# Altium footprint library SparkFun-Sensors.PCBLIB: 114 footprints (part 7 of 8)
Each footprint in its own frame and in the unit in brackets; x right, y up, seen from the top. Pads: shape width x height; smd on the part's side, far side on the other; paste and mask are expansions set on the pad; w line width, h text height; cw(c..) or ccw(c..) is an arc to the next point about the centre after c.
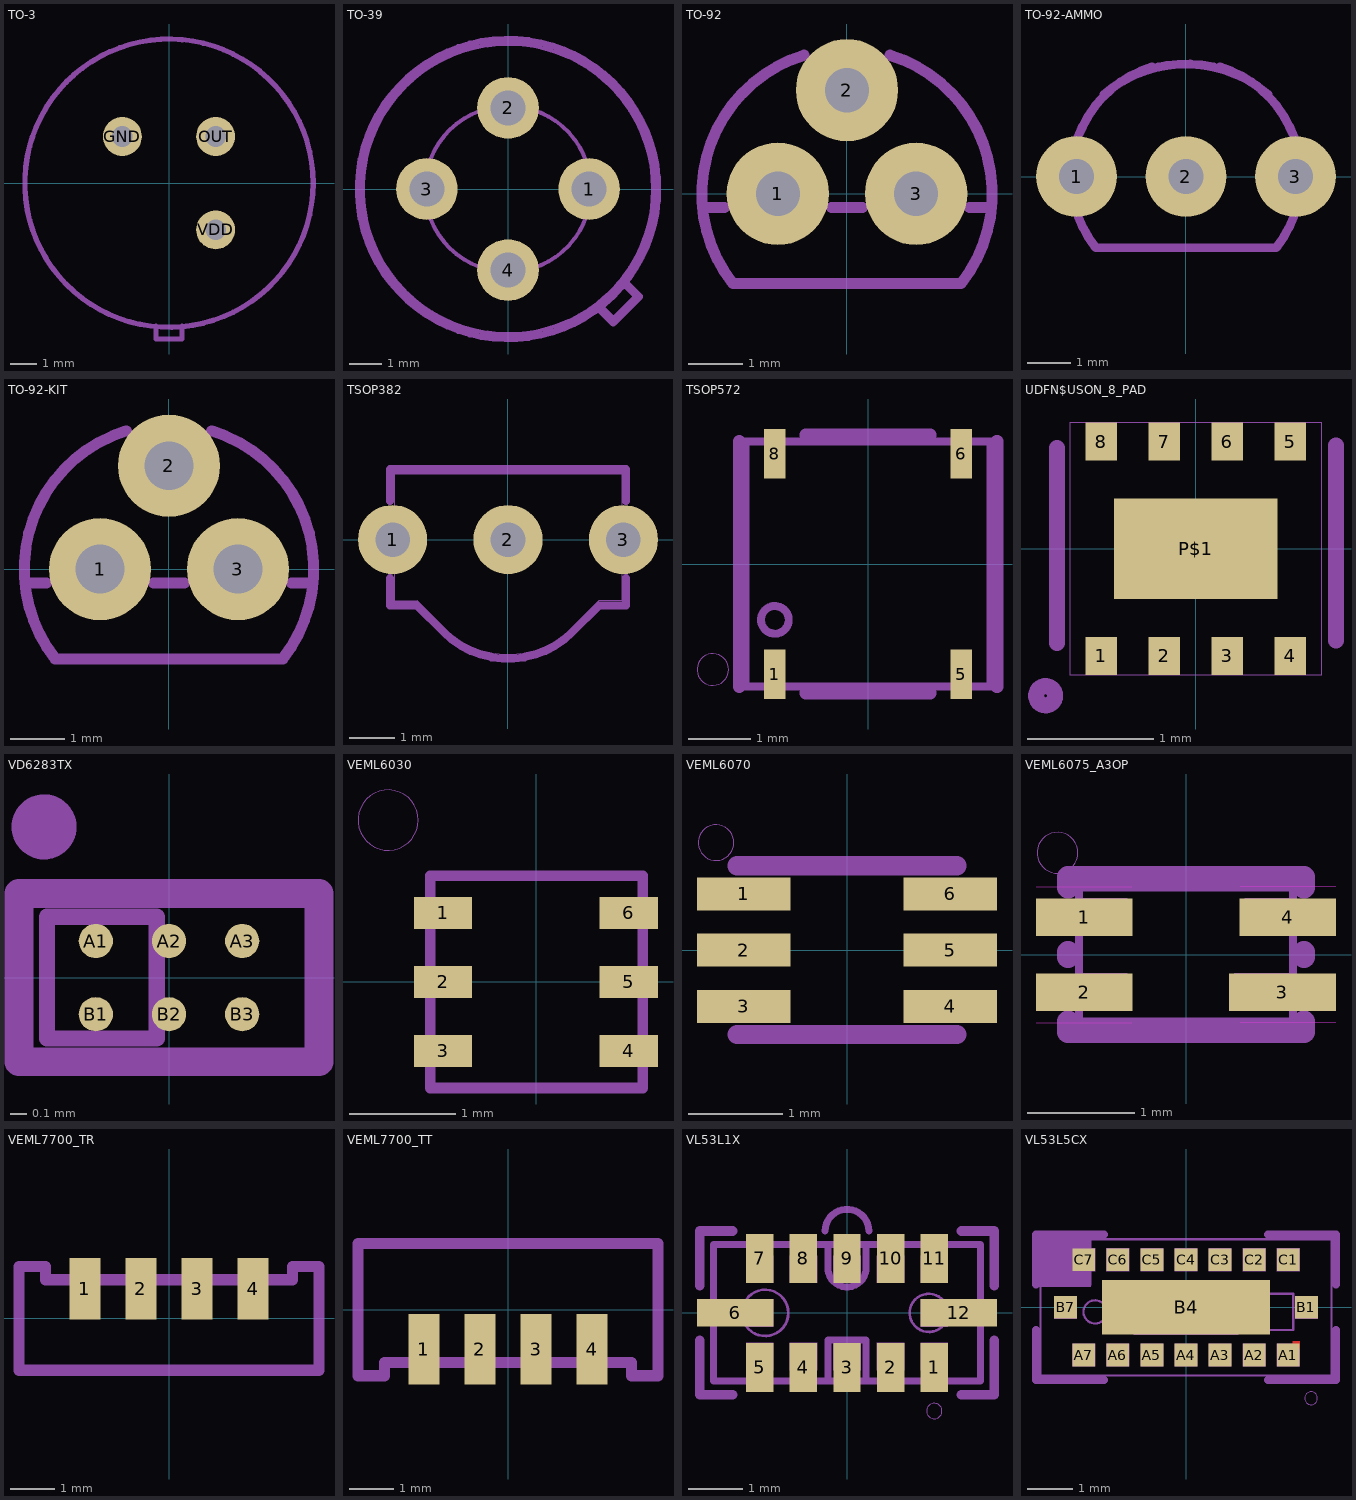
[diagram p6: the footprints below, top view; thin cyan lines are the x and y axes]

## TO-3 [mil]
pads (3):
  round 59.06 hole 31.5: GND(-70.71,70.71) OUT(70.71,70.71) VDD(70.71,-70.71)
Bottom Solder:
  circle w33.46: c-70.71,70.71 r16.73
  circle w33.46: c70.71,-70.71 r16.73
  circle w33.46: c70.71,70.71 r16.73
tPlace:
  circle w8: c0,0 r218.5
  lines w8: -19.69,-216.54 -19.69,-236.22 19.69,-236.22 19.69,-216.54

## TO-39 [mil]
pads (4):
  round 76 hole 43.31: 1(100,0) 2(0,100) 3(-100,0) 4(0,-100)
Bottom Solder:
  circle w0: c-100,0 r40
  circle w0: c100,0 r40
  circle w0: c0,-100 r40
  circle w0: c0,100 r40
tDocu:
  circle w5: c0,0 r102.36
  circle w5: c0,0 r179.13
  lines w5: 112.16,-141.15 128.87,-157.86 ; 130.26,-159.25 156.7,-132.8 ; 138.61,-114.71 155.31,-131.41
tPlace:
  circle w8: c0,0 r185
  lines w8: 112.16,-148.15 129.87,-165.86 ; 130.26,-165.25 162.7,-132.8 ; 145.61,-115.71 162.31,-132.41

## TO-92 [mil]
pads (3):
  round 74 hole 32: 1(-50,0) 2(0,75) 3(50,0)
tPlace:
  lines w8: -104.52,-10 -88.73,-10 ; -30.96,100.33 ccw(c0,0) -82.46,-65 82.46,-65 ccw(c0,0) 30.96,100.33 ; -11.27,-10 11.27,-10 ; 88.73,-10 104.52,-10

## TO-92-AMMO [mil]
pads (3):
  round 74 hole 32: 1(-100,0) 2(0,0) 3(100,0)
tPlace:
  lines w8: -75,75 cw(c0,-12.5) 25,100 ; -30.96,100.33 ccw(c0,0) -82.46,-65 82.46,-65 ccw(c0,0) 30.96,100.33 ; -25,100 cw(c0,-12.5) 25,100 ; 75,75 ccw(c0,-12.5) 25,100

## TO-92-KIT [mil]
pads (3):
  round 74 hole 35.43: 1(-50,0) 2(0,75) 3(50,0)
Top Solder:
  region: -50,-17.5 -53.4,-17.58 -59.75,-15.12 -64.67,-10.43 -67.42,-4.2 -67.5,-0.8 -67.59,2.77 -65.02,9.44 -60.1,14.61 -53.57,17.51 -50,17.6 -46.48,17.54 -40.02,14.74 -35.12,9.67 -32.54,3.12 -32.6,-0.4 -32.63,-3.83 -35.31,-10.15 -40.21,-14.96 -46.57,-17.53 -50,-17.5
  region: 50,-17.5 46.6,-17.58 40.25,-15.12 35.33,-10.43 32.58,-4.2 32.5,-0.8 32.41,2.77 34.98,9.44 39.9,14.61 46.43,17.51 50,17.6 53.52,17.54 59.98,14.74 64.88,9.67 67.46,3.12 67.4,-0.4 67.37,-3.83 64.69,-10.15 59.79,-14.96 53.43,-17.53 50,-17.5
  region: 0,57.5 -3.4,57.42 -9.75,59.88 -14.67,64.57 -17.42,70.8 -17.5,74.2 -17.59,77.77 -15.02,84.44 -10.1,89.61 -3.57,92.51 0,92.6 3.52,92.54 9.98,89.74 14.88,84.67 17.46,78.12 17.4,74.6 17.37,71.17 14.69,64.85 9.79,60.04 3.43,57.47 0,57.5
Bottom Solder:
  region: -49.9,-37.5 -53.55,-37.55 -60.74,-36.22 -67.53,-33.51 -73.66,-29.54 -78.9,-24.44 -83.04,-18.42 -85.93,-11.7 -87.45,-4.55 -87.5,-0.9 -87.54,2.84 -86.17,10.19 -83.4,17.13 -79.32,23.39 -74.09,28.74 -67.93,32.97 -61.05,35.91 -53.74,37.46 -50,37.5 -46.26,37.45 -38.95,35.88 -32.09,32.92 -25.93,28.68 -20.72,23.31 -16.66,17.04 -13.9,10.09 -12.55,2.74 -12.6,-1 -12.64,-4.63 -14.13,-11.75 -16.99,-18.43 -21.09,-24.44 -26.29,-29.52 -32.37,-33.49 -39.12,-36.2 -46.27,-37.54 -49.9,-37.5
  region: 50.1,-37.5 46.45,-37.55 39.26,-36.22 32.47,-33.51 26.34,-29.54 21.1,-24.44 16.96,-18.42 14.07,-11.7 12.55,-4.55 12.5,-0.9 12.46,2.84 13.83,10.19 16.6,17.13 20.68,23.39 25.91,28.74 32.07,32.97 38.95,35.91 46.26,37.46 50,37.5 53.74,37.45 61.05,35.88 67.91,32.92 74.07,28.68 79.28,23.31 83.34,17.04 86.1,10.09 87.45,2.74 87.4,-1 87.36,-4.63 85.87,-11.75 83.01,-18.43 78.91,-24.44 73.71,-29.52 67.63,-33.49 60.88,-36.2 53.73,-37.54 50.1,-37.5
  region: 0.1,37.5 -3.55,37.45 -10.74,38.78 -17.53,41.49 -23.66,45.46 -28.9,50.56 -33.04,56.58 -35.93,63.3 -37.45,70.45 -37.5,74.1 -37.54,77.84 -36.17,85.19 -33.4,92.13 -29.32,98.39 -24.09,103.74 -17.93,107.97 -11.05,110.91 -3.74,112.46 0,112.5 3.74,112.45 11.05,110.88 17.91,107.92 24.07,103.68 29.28,98.31 33.34,92.04 36.1,85.09 37.45,77.74 37.4,74 37.36,70.37 35.87,63.25 33.01,56.57 28.91,50.56 23.71,45.48 17.63,41.51 10.88,38.8 3.73,37.46 0.1,37.5
tPlace:
  lines w8: -104.52,-10 -88.73,-10 ; -30.96,100.33 ccw(c0,0) -82.46,-65 82.46,-65 ccw(c0,0) 30.96,100.33 ; -11.27,-10 11.27,-10 ; 88.73,-10 104.52,-10

## TSOP382 [mil]
pads (3):
  round 60 hole 30: 1(-100,0) 2(0,0) 3(100,0)
tDocu:
  lines w0.1: -98.43,-53.15 -98.43,57.09 98.43,57.09 98.43,-53.15 78.74,-53.15 55.68,-76.21 cw(c0,-20.53) -55.68,-76.21 -78.74,-53.15 -98.43,-53.15
tPlace:
  lines w7: -102.36,-33.46 -102.36,-57.09 -78.74,-57.09 -55.68,-80.15 ccw(c0,-24.47) 55.68,-80.15 78.74,-57.09 102.36,-57.09 102.36,-33.46 ; -102.36,33.46 -102.36,61.02 102.36,61.02 102.36,33.46

## TSOP572 [mm]
pads (4):
  rect 0.35x0.8 smd: 1(-1.5,-1.775) 5(1.5,-1.775) 6(1.5,1.775) 8(-1.5,1.775)
tDocu:
  circle w0.127: c-1.5,-0.9 r0.224
  lines w0.127: -1.975,-1.975 -1.975,1.975 1.975,1.975 1.975,-1.975 -1.975,-1.975
tPlace:
  circle w0: c-2.5,-1.7 r0.254
  lines w0.203: -2.077,-1.975 -2.077,1.975 ; -1,-2.077 1,-2.077 ; -1,2.077 1,2.077 ; 2.077,-1.975 2.077,1.975

## UDFN$USON_8_PAD [mil]
pads (9):
  rect 9.84x11.81 smd: 1(-29.53,-33.53) 2(-9.84,-33.53) 3(9.84,-33.53) 4(29.53,-33.53) 5(29.53,33.53) 6(9.84,33.53) 7(-9.84,33.53) 8(-29.53,33.53)
  rect 51.18x31.5 smd paste+0: P$1(0,0)
Top Paste:
  region: -22,2 -22,13 -10,13 -10,2
  region: 9.69,2.16 9.69,13.16 21.69,13.16 21.69,2.16
  region: 9.69,-12.84 9.69,-1.84 21.69,-1.84 21.69,-12.84
  region: -22.32,-12.84 -22.32,-1.84 -10.32,-1.84 -10.32,-12.84
  region: -6.32,-5.84 -6.32,5.16 5.68,5.16 5.68,-5.84
tDocu:
  lines w0: -39.37,-39.37 39.37,-39.37 39.37,39.37 -39.37,39.37 -39.37,-39.37
tPlace:
  circle w5: c-47,-46 r3
  lines w5: -43.43,-29.51 -43.43,31.51 ; 43.86,-28.67 43.86,32.35

## VD6283TX [mm]
pads (6):
  rrect100% 0.21x0.21 smd paste+0: A1(-0.45,0.225) A2(0,0.225) A3(0.45,0.225) B1(-0.45,-0.225) B2(0,-0.225) B3(0.45,-0.225)
Top Paste:
  drawing of 6 lines, arcs and shapes, not listed
tDocu:
  lines w0.1: -0.9,-0.525 -0.9,0.525 0.9,0.525 0.9,-0.525 -0.9,-0.525 ; -0.75,-0.375 -0.75,0.375 -0.075,0.375 -0.075,-0.375 -0.75,-0.375
tPlace:
  circle w0.254: c-0.768,0.927 r0.073
  lines w0.178: -0.923,-0.517 -0.923,0.517 0.923,0.517 0.923,-0.517 -0.923,-0.517

## VEML6030 [mm]
pads (6):
  rect 0.55x0.3 smd: 1(-0.88,0.65) 2(-0.88,0) 3(-0.88,-0.65) 4(0.87,-0.65) 5(0.87,0) 6(0.87,0.65)
tDocu:
  lines w0.1: -1,-1 1,-1 1,1 -1,1 -1,-1
tPlace:
  circle w0: c-1.397,1.524 r0.284

## VEML6070 [mm]
pads (6):
  rect 1x0.35 smd: 1(-1.1,0.6) 2(-1.1,0) 3(-1.1,-0.6) 4(1.1,-0.6) 5(1.1,0) 6(1.1,0.6)
tPlace:
  circle w0: c-1.397,1.147 r0.191
  lines w0.203: -1.175,-0.9 1.175,-0.9 ; -1.175,0.9 1.175,0.9

## VEML6075_A3OP [mm]
pads (4):
  rect 0.9x0.35 smd: 1(-0.95,0.35) 2(-0.95,-0.35) 4(0.95,0.35)
  rect 1x0.35 smd: 3(0.9,-0.35)
Top keep-out:
  lines w0.003: -1.397,-0.635 -0.508,-0.635 ; -1.397,0.635 -0.508,0.635 ; 0.508,-0.635 1.397,-0.635 ; 0.508,0.635 1.397,0.635
tDocu:
  region: -0.97,0.175 -0.97,0.525 -0.55,0.525 -0.55,0.175
  region: 0.97,0.525 0.97,0.175 0.55,0.175 0.55,0.525
  region: -0.97,-0.525 -0.97,-0.175 -0.55,-0.175 -0.55,-0.525
  region: 0.45,-0.525 0.45,-0.175 0.97,-0.175 0.97,-0.525
  lines w0.076: -1,-0.625 -1,0.625 1,0.625 1,-0.625 -1,-0.625
tPlace:
  circle w0: c-1.2,0.95 r0.191
  lines w0.203: -1.1,-0.625 -1.1,-0.725 1.1,-0.725 1.1,-0.625 ; -1.1,-0.025 -1.1,0.025 ; -1.1,0.625 -1.1,0.725 1.1,0.725 1.1,0.625 ; 1.1,-0.025 1.1,0.025

## VEML7700_TR [mm]
pads (4):
  rect 0.7x1.4 smd: 1(-1.905,0.675) 2(-0.635,0.675) 3(0.635,0.675) 4(1.905,0.675)
tDocu:
  region: 2.155,1.175 2.155,0.175 1.655,0.175 1.655,1.175
  region: 0.885,1.175 0.885,0.175 0.385,0.175 0.385,1.175
  region: -0.385,1.175 -0.385,0.175 -0.885,0.175 -0.885,1.175
  region: -1.655,1.175 -1.655,0.175 -2.155,0.175 -2.155,1.175
  lines w0.254: -3.4,-1.175 -3.4,1.175 -2.8,1.175 -2.8,0.875 2.8,0.875 2.8,1.175 3.4,1.175 3.4,-1.175 -3.4,-1.175
  text "Sensitive This Side" at 0,-1.7 h0.47
tPlace:
  lines w0.254: -3,1.175 -3.4,1.175 -3.4,-1.175 3.4,-1.175 3.4,1.175 3,1.175

## VEML7700_TT [mm]
pads (4):
  rect 0.7x1.6 smd: 1(-1.905,-0.9) 2(-0.635,-0.9) 3(0.635,-0.9) 4(1.905,-0.9)
tDocu:
  region: -2.155,-1.5 -2.155,-0.3 -1.655,-0.3 -1.655,-1.5
  region: -0.885,-1.5 -0.885,-0.3 -0.385,-0.3 -0.385,-1.5
  region: 0.385,-1.5 0.385,-0.3 0.885,-0.3 0.885,-1.5
  region: 1.655,-1.5 1.655,-0.3 2.155,-0.3 2.155,-1.5
  lines w0.254: -3.4,-1.5 -3.4,1.5 3.4,1.5 3.4,-1.5 2.8,-1.5 2.8,-1.2 -2.8,-1.2 -2.8,-1.5 -3.4,-1.5
tPlace:
  lines w0.254: -3,-1.5 -3.4,-1.5 -3.4,1.5 3.4,1.5 3.4,-1.5 3,-1.5

## VL53L1X [mm]
pads (12):
  rect 0.5x0.9 smd paste+0: 1(1.6,-1) 2(0.8,-1) 3(0,-1) 4(-0.8,-1) 5(-1.6,-1) 7(-1.6,1) 8(-0.8,1) 9(0,1) 10(0.8,1) 11(1.6,1)
  rect 1.4x0.5 smd paste+0: 6(-2.05,0) 12(2.05,0)
Top Paste:
  region: -1.85,-1.15 -1.85,-0.55 -1.35,-0.55 -1.35,-1.15
  region: -1.05,-1.15 -1.05,-0.55 -0.55,-0.55 -0.55,-1.15
  region: -0.25,-1.15 -0.25,-0.55 0.25,-0.55 0.25,-1.15
  region: 0.55,-1.15 0.55,-0.55 1.05,-0.55 1.05,-1.15
  region: 1.35,-1.15 1.35,-0.55 1.85,-0.55 1.85,-1.15
  region: 1.95,-0.25 1.35,-0.25 1.35,0.25 1.95,0.25
  region: 1.85,1.15 1.85,0.55 1.35,0.55 1.35,1.15
  region: 1.05,1.15 1.05,0.55 0.55,0.55 0.55,1.15
  region: 0.25,1.15 0.25,0.55 -0.25,0.55 -0.25,1.15
  region: -0.55,1.15 -0.55,0.55 -1.05,0.55 -1.05,1.15
  region: -1.35,1.15 -1.35,0.55 -1.85,0.55 -1.85,1.15
  region: -1.95,0.25 -1.35,0.25 -1.35,-0.25 -1.95,-0.25
tDocu:
  lines w0.127: -0.35,-1.25 0.35,-1.25 ; -0.35,-1.25 -2.45,-1.25 -2.45,1.25 -0.35,1.25 ; -0.35,-1.25 -0.35,-0.5 0.35,-0.5 0.35,-1.25 ; -0.35,1.25 0.35,1.25 ; -0.35,1.25 -0.35,0.85 ccw(c0,0.825) 0.35,0.85 0.35,1.25 ; 0.35,-1.25 2.45,-1.25 2.45,1.25 0.35,1.25
tPlace:
  circle w0: c1.6,-1.8 r0.141
  lines w0.127: -0.4,1.5 cw(c0,1.5) 0.4,1.5
  lines w0.178: -2.7,-0.5 -2.7,-1.5 -2.1,-1.5 ; -2.7,0.5 -2.7,1.5 -2.1,1.5 ; 2.1,-1.5 2.7,-1.5 2.7,-0.5 ; 2.1,1.5 2.7,1.5 2.7,0.5
Document:
  region: 1.35,-0.25 1.35,0.25 1.85,0.25 1.85,-0.25
  region: -0.25,-1.05 -0.25,-0.55 0.25,-0.55 0.25,-1.05
  region: 0.55,-1.05 0.55,-0.55 1.05,-0.55 1.05,-1.05
  region: 1.35,-1.05 1.35,-0.55 1.85,-0.55 1.85,-1.05
  region: -1.05,-1.05 -1.05,-0.55 -0.55,-0.55 -0.55,-1.05
  region: -1.85,-1.05 -1.85,-0.55 -1.35,-0.55 -1.35,-1.05
  region: -1.85,-0.25 -1.85,0.25 -1.35,0.25 -1.35,-0.25
  region: -1.85,0.55 -1.85,1.05 -1.35,1.05 -1.35,0.55
  region: -1.05,0.55 -1.05,1.05 -0.55,1.05 -0.55,0.55
  region: -0.25,0.55 -0.25,1.05 0.25,1.05 0.25,0.55
  region: 0.55,0.55 0.55,1.05 1.05,1.05 1.05,0.55
  region: 1.35,0.55 1.35,1.05 1.85,1.05 1.85,0.55
Reference:
  circle w0.05: c-1.5,0 r0.425
  circle w0.05: c1.5,0 r0.35

## VL53L5CX [mm]
pads (17):
  rect 0.5x0.5 smd paste+0: A1(2.25,-1.05) A2(1.5,-1.05) A3(0.75,-1.05) A4(0,-1.05) A5(-0.75,-1.05) A6(-1.5,-1.05) A7(-2.25,-1.05) B1(2.65,0) B7(-2.65,0) C1(2.25,1.05) C2(1.5,1.05) C3(0.75,1.05) C4(0,1.05) C5(-0.75,1.05) C6(-1.5,1.05) C7(-2.25,1.05)
  rect 3.7x1.2 smd paste+0: B4(0,0)
Top:
  region: 2.35,-0.9 2.35,-0.75 2.5,-0.75 2.5,-0.9
Top Paste:
  region: 0.25,0.1 0.25,0.55 0.9,0.55 0.9,0.1
  region: -0.25,0.55 -0.25,0.1 -0.9,0.1 -0.9,0.55
  region: -0.25,-0.1 -0.25,-0.55 -0.9,-0.55 -0.9,-0.1
  region: 0.25,-0.55 0.25,-0.1 0.9,-0.1 0.9,-0.55
  region: -2.45,-1.3 -2.45,-0.8 -2.05,-0.8 -2.05,-1.3
  region: -1.7,-1.3 -1.7,-0.8 -1.3,-0.8 -1.3,-1.3
  region: -0.95,-1.3 -0.95,-0.8 -0.55,-0.8 -0.55,-1.3
  region: -0.2,-1.3 -0.2,-0.8 0.2,-0.8 0.2,-1.3
  region: 0.55,-1.3 0.55,-0.8 0.95,-0.8 0.95,-1.3
  region: 1.3,-1.3 1.3,-0.8 1.7,-0.8 1.7,-1.3
  region: 2.05,-1.3 2.05,-0.8 2.45,-0.8 2.45,-1.3
  region: 2.45,-0.25 2.45,0.25 2.85,0.25 2.85,-0.25
  region: 2.05,0.8 2.05,1.3 2.45,1.3 2.45,0.8
  region: 1.3,0.8 1.3,1.3 1.7,1.3 1.7,0.8
  region: 0.55,0.8 0.55,1.3 0.95,1.3 0.95,0.8
  region: -0.2,0.8 -0.2,1.3 0.2,1.3 0.2,0.8
  region: -0.95,0.8 -0.95,1.3 -0.55,1.3 -0.55,0.8
  region: -1.7,0.8 -1.7,1.3 -1.3,1.3 -1.3,0.8
  region: -2.45,0.8 -2.45,1.3 -2.05,1.3 -2.05,0.8
  region: -2.85,-0.25 -2.85,0.25 -2.45,0.25 -2.45,-0.25
tDocu:
  circle w0.05: c-2,-0.1 r0.255
  region: 2.4,-0.25 2.4,0.25 2.9,0.25 2.9,-0.25
  region: -1,0.8 -1,1.3 -0.5,1.3 -0.5,0.8
  region: -2.9,-0.25 -2.9,0.25 -2.4,0.25 -2.4,-0.25
  region: -1,-1.3 -1,-0.8 -0.5,-0.8 -0.5,-1.3
  region: -1.75,-1.3 -1.75,-0.8 -1.25,-0.8 -1.25,-1.3
  region: -2.5,-1.3 -2.5,-0.8 -2,-0.8 -2,-1.3
  region: -0.25,-1.3 -0.25,-0.8 0.25,-0.8 0.25,-1.3
  region: 0.5,-1.3 0.5,-0.8 1,-0.8 1,-1.3
  region: 1.25,-1.3 1.25,-0.8 1.75,-0.8 1.75,-1.3
  region: 2,-1.3 2,-0.8 2.5,-0.8 2.5,-1.3
  region: -1.75,0.8 -1.75,1.3 -1.25,1.3 -1.25,0.8
  region: -2.5,0.8 -2.5,1.3 -2,1.3 -2,0.8
  region: -0.25,0.8 -0.25,1.3 0.25,1.3 0.25,0.8
  region: 0.5,0.8 0.5,1.3 1,1.3 1,0.8
  region: 1.25,0.8 1.25,1.3 1.75,1.3 1.75,0.8
  region: 2,0.8 2,1.3 2.5,1.3 2.5,0.8
  region: -1.15,-0.6 -1.15,0.6 1.15,0.6 1.15,-0.6
  lines w0.05: -3.2,0.5 -3.2,-1.5 3.2,-1.5 3.2,1.5 -2.1,1.5 ; -3.2,0.5 -3.2,1.5 -2.1,1.5 ; -3.2,0.5 -2.1,0.5 -2.1,1.5 ; 1.64,-0.5 2.36,-0.5 2.36,0.3 1.64,0.3 1.64,-0.5
tPlace:
  circle w0: c2.75,-2 r0.141
  region: -3.3,0.45 -3.3,1.55 -2.1,1.55 -2.1,0.45
  lines w0.178: -3.3,-0.5 -3.3,-1.6 -1.8,-1.6 ; -3.3,0.5 -3.3,1.6 -1.8,1.6 ; 1.8,-1.6 3.3,-1.6 3.3,-0.5 ; 1.8,1.6 3.3,1.6 3.3,0.5